# Altium footprint library Connectors-WR-PHD_Pin Header.PcbLib: 232 footprints (part 9 of 15)
Each footprint in its own frame and in the unit in brackets; x right, y up, seen from the top. Pads: shape width x height; smd on the part's side, far side on the other; paste and mask are expansions set on the pad; w line width, h text height; cw(c..) or ccw(c..) is an arc to the next point about the centre after c.
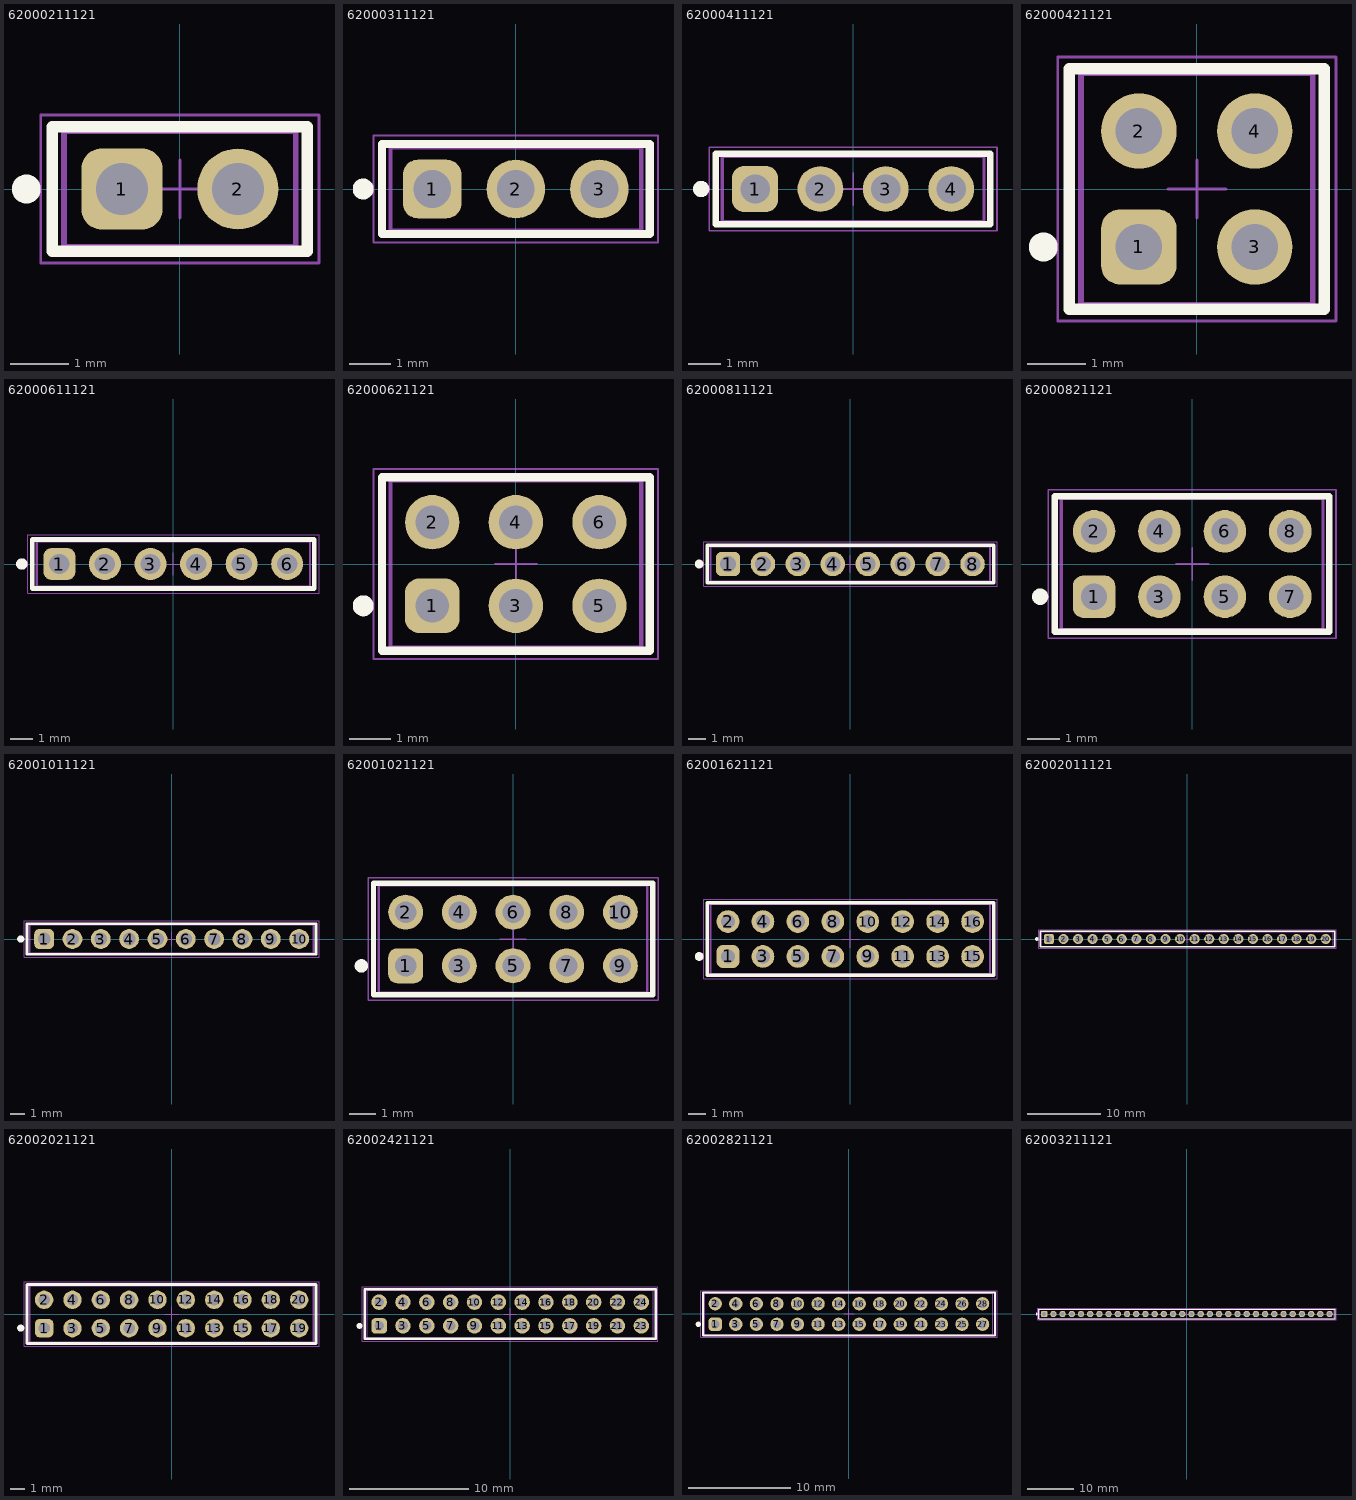
[diagram p8: the footprints below, top view; thin cyan lines are the x and y axes]

## 62000211121 [mm] "Pin Header, pitch 2.00 mm, THT, Vertical, single row, 2p"
height 6.35
pads (2):
  rrect50% 1.4x1.4 hole 0.9: 1(-1,0)
  round 1.4 hole 0.9: 2(1,0)
Top Overlay:
  circle w0.25: c-2.65,0 r0.125
  lines w0.2: -2.2,-1.075 -2.2,1.075 2.2,1.075 2.2,-1.075 -2.2,-1.075
Top Designator:
  text ".Designator" at -5.998,-0.4 h1.2
Top Component Outline:
  lines w0.1: -2,-1 -2,1 2,1 2,-1 -2,-1
Top Courtyard:
  lines w0.05: -2.4,-1.275 -2.4,1.275 2.4,1.275 2.4,-1.275 -2.4,-1.275
Top Component Center:
  lines w0.05: -0.5,0 0.5,0 ; 0,-0.5 0,0.5
3D body "62000211121.stp": height 6.05, standoff -2.65, extent -2,-1 2,1

## 62000311121 [mm] "Pin Header, pitch 2.00 mm, THT, Vertical, single row, 3p"
height 6.35
pads (3):
  rrect50% 1.4x1.4 hole 0.9: 1(-2,0)
  round 1.4 hole 0.9: 2(0,0) 3(2,0)
Top Overlay:
  circle w0.25: c-3.65,0 r0.125
  lines w0.2: -3.2,-1.075 -3.2,1.075 3.2,1.075 3.2,-1.075 -3.2,-1.075
Top Designator:
  text ".Designator" at -5.998,-0.4 h1.2
Top Component Outline:
  lines w0.1: -3,-1 -3,1 3,1 3,-1 -3,-1
Top Courtyard:
  lines w0.05: -3.4,-1.275 -3.4,1.275 3.4,1.275 3.4,-1.275 -3.4,-1.275
Top Component Center:
  lines w0.05: -0.5,0 0.5,0 ; 0,-0.5 0,0.5
3D body "62000311121.stp": height 6.05, standoff -2.65, extent -3,-1 3,1

## 62000411121 [mm] "Pin Header, pitch 2.00 mm, THT, Vertical, single row, 4p"
height 6.35
pads (4):
  rrect50% 1.4x1.4 hole 0.9: 1(-3,0)
  round 1.4 hole 0.9: 2(-1,0) 3(1,0) 4(3,0)
Top Overlay:
  circle w0.25: c-4.65,0 r0.125
  lines w0.2: -4.2,-1.075 -4.2,1.075 4.2,1.075 4.2,-1.075 -4.2,-1.075
Top Designator:
  text ".Designator" at -5.998,-0.4 h1.2
Top Component Outline:
  lines w0.1: -4,-1 -4,1 4,1 4,-1 -4,-1
Top Courtyard:
  lines w0.05: -4.4,-1.275 -4.4,1.275 4.4,1.275 4.4,-1.275 -4.4,-1.275
Top Component Center:
  lines w0.05: -0.5,0 0.5,0 ; 0,-0.5 0,0.5
3D body "62000411121.stp": height 6.05, standoff -2.65, extent -4,-1 4,1

## 62000421121 [mm] "2.00 mm THT Dual Pin Header, 4p"
height 6
pads (4):
  rrect50% 1.3x1.3 hole 0.8: 1(-1,-1)
  round 1.3 hole 0.8: 2(-1,1) 3(1,-1) 4(1,1)
Top Overlay:
  circle w0.25: c-2.65,-1 r0.125
  lines w0.2: -2.2,-2.075 2.2,-2.075 2.2,2.075 -2.2,2.075 -2.2,-2.075
Top Designator:
  text ".Designator" at -7.498,-0.5 h1.5
Top Component Outline:
  lines w0.1: -2,-2 2,-2 2,2 -2,2 -2,-2
Top Courtyard:
  lines w0.05: -2.4,-2.275 -2.4,2.275 2.4,2.275 2.4,-2.275 -2.4,-2.275
Top Component Center:
  lines w0.05: -0.5,0 0.5,0 ; 0,-0.5 0,0.5
3D body "62000421121.stp": height 6.05, standoff -2.65, extent -2,-2 2,2

## 62000611121 [mm] "Pin Header, pitch 2.00 mm, THT, Vertical, single row, 6p"
height 6.35
pads (6):
  rrect50% 1.4x1.4 hole 0.9: 1(-5,0)
  round 1.4 hole 0.9: 2(-3,0) 3(-1,0) 4(1,0) 5(3,0) 6(5,0)
Top Overlay:
  circle w0.25: c-6.65,0 r0.125
  lines w0.2: -6.2,-1.075 -6.2,1.075 6.2,1.075 6.2,-1.075 -6.2,-1.075
Top Designator:
  text ".Designator" at -5.998,-0.4 h1.2
Top Component Outline:
  lines w0.1: -6,-1 -6,1 6,1 6,-1 -6,-1
Top Courtyard:
  lines w0.05: -6.4,-1.275 -6.4,1.275 6.4,1.275 6.4,-1.275 -6.4,-1.275
Top Component Center:
  lines w0.05: -0.5,0 0.5,0 ; 0,-0.5 0,0.5
3D body "62000611121.stp": height 6.05, standoff -2.65, extent -6,-1 6,1

## 62000621121 [mm] "2.00 mm THT Dual Pin Header, 6p"
height 6
pads (6):
  rrect50% 1.3x1.3 hole 0.8: 1(-2,-1)
  round 1.3 hole 0.8: 2(-2,1) 3(0,-1) 4(0,1) 5(2,-1) 6(2,1)
Top Overlay:
  circle w0.25: c-3.65,-1 r0.125
  lines w0.2: -3.2,-2.075 -3.2,2.075 3.2,2.075 3.2,-2.075 -3.2,-2.075
Top Designator:
  text ".Designator" at -7.498,-0.5 h1.5
Top Component Outline:
  lines w0.1: -3,-2 -3,2 3,2 3,-2 -3,-2
Top Courtyard:
  lines w0.05: -3.4,-2.275 3.4,-2.275 3.4,2.275 -3.4,2.275 -3.4,-2.275
Top Component Center:
  lines w0.05: -0.5,0 0.5,0 ; 0,-0.5 0,0.5
3D body "62000621121.stp": height 6.05, standoff -2.65, extent -3,-2 3,2

## 62000811121 [mm] "Pin Header, pitch 2.00 mm, THT, Vertical, single row, 8p"
height 6.35
pads (8):
  rrect50% 1.4x1.4 hole 0.9: 1(-7,0)
  round 1.4 hole 0.9: 2(-5,0) 3(-3,0) 4(-1,0) 5(1,0) 6(3,0) 7(5,0) 8(7,0)
Top Overlay:
  circle w0.25: c-8.65,0 r0.125
  lines w0.2: -8.2,-1.075 -8.2,1.075 8.2,1.075 8.2,-1.075 -8.2,-1.075
Top Designator:
  text ".Designator" at -5.998,-0.4 h1.2
Top Component Outline:
  lines w0.1: -8,-1 -8,1 8,1 8,-1 -8,-1
Top Courtyard:
  lines w0.05: -8.4,-1.275 -8.4,1.275 8.4,1.275 8.4,-1.275 -8.4,-1.275
Top Component Center:
  lines w0.05: -0.5,0 0.5,0 ; 0,-0.5 0,0.5
3D body "62000811121.stp": height 6.05, standoff -2.65, extent -8,-1 8,1

## 62000821121 [mm] "2.00 mm THT Dual Pin Header, 8p"
height 6
pads (8):
  rrect50% 1.3x1.3 hole 0.8: 1(-3,-1)
  round 1.3 hole 0.8: 2(-3,1) 3(-1,-1) 4(-1,1) 5(1,-1) 6(1,1) 7(3,-1) 8(3,1)
Top Overlay:
  circle w0.25: c-4.65,-1 r0.125
  lines w0.2: -4.2,-2.075 -4.2,2.075 4.2,2.075 4.2,-2.075 -4.2,-2.075
Top Designator:
  text ".Designator" at -7.498,-0.5 h1.5
Top Component Outline:
  lines w0.1: -4,-2 -4,2 4,2 4,-2 -4,-2
Top Courtyard:
  lines w0.05: -4.4,-2.275 4.4,-2.275 4.4,2.275 -4.4,2.275 -4.4,-2.275
Top Component Center:
  lines w0.05: -0.5,0 0.5,0 ; 0,-0.5 0,0.5
3D body "62000821121.stp": height 6.05, standoff -2.65, extent -4,-2 4,2

## 62001011121 [mm] "Pin Header, pitch 2.00 mm, THT, Vertical, single row, 10p"
height 6.35
pads (10):
  rrect50% 1.4x1.4 hole 0.9: 1(-9,0)
  round 1.4 hole 0.9: 2(-7,0) 3(-5,0) 4(-3,0) 5(-1,0) 6(1,0) 7(3,0) 8(5,0) 9(7,0) 10(9,0)
Top Overlay:
  circle w0.25: c-10.65,0 r0.125
  lines w0.2: -10.2,-1.075 10.2,-1.075 10.2,1.075 -10.2,1.075 -10.2,-1.075
Top Designator:
  text ".Designator" at -5.998,-0.4 h1.2
Top Component Outline:
  lines w0.1: -10,-1 10,-1 10,1 -10,1 -10,-1
Top Courtyard:
  lines w0.05: -10.4,-1.275 10.4,-1.275 10.4,1.275 -10.4,1.275 -10.4,-1.275
Top Component Center:
  lines w0.05: -0.5,0 0.5,0 ; 0,-0.5 0,0.5
3D body "62001011121.stp": height 6.05, standoff -2.65, extent -10,-1 10,1

## 62001021121 [mm] "2.00 mm THT Dual Pin Header, 10p"
height 6
pads (10):
  rrect50% 1.3x1.3 hole 0.8: 1(-4,-1)
  round 1.3 hole 0.8: 2(-4,1) 3(-2,-1) 4(-2,1) 5(0,-1) 6(0,1) 7(2,-1) 8(2,1) 9(4,-1) 10(4,1)
Top Overlay:
  circle w0.25: c-5.65,-1 r0.125
  lines w0.2: -5.2,-2.075 5.2,-2.075 5.2,2.075 -5.2,2.075 -5.2,-2.075
Top Designator:
  text ".Designator" at -7.498,-0.5 h1.5
Top Component Outline:
  lines w0.1: -5,-2 5,-2 5,2 -5,2 -5,-2
Top Courtyard:
  lines w0.05: -5.4,-2.275 -5.4,2.275 5.4,2.275 5.4,-2.275 -5.4,-2.275
Top Component Center:
  lines w0.05: -0.5,0 0.5,0 ; 0,-0.5 0,0.5
3D body "62001021121.stp": height 6.05, standoff -2.65, extent -5,-2 5,2

## 62001621121 [mm] "2.00 mm THT Dual Pin Header, 16p"
height 6
pads (16):
  rrect50% 1.3x1.3 hole 0.8: 1(-7,-1)
  round 1.3 hole 0.8: 2(-7,1) 3(-5,-1) 4(-5,1) 5(-3,-1) 6(-3,1) 7(-1,-1) 8(-1,1) 9(1,-1) 10(1,1) 11(3,-1) 12(3,1) 13(5,-1) 14(5,1) 15(7,-1) 16(7,1)
Top Overlay:
  circle w0.25: c-8.65,-1 r0.125
  lines w0.2: -8.2,-2.075 -8.2,2.075 8.2,2.075 8.2,-2.075 -8.2,-2.075
Top Designator:
  text ".Designator" at -7.498,-0.5 h1.5
Top Component Outline:
  lines w0.1: -8,-2 -8,2 8,2 8,-2 -8,-2
Top Courtyard:
  lines w0.05: -8.4,-2.275 8.4,-2.275 8.4,2.275 -8.4,2.275 -8.4,-2.275
Top Component Center:
  lines w0.05: -0.5,0 0.5,0 ; 0,-0.5 0,0.5
3D body "62001621121.stp": height 6.05, standoff -2.65, extent -8,-2 8,2

## 62002011121 [mm] "Pin Header, pitch 2.00 mm, THT, Vertical, single row, 20p"
height 6.35
pads (20):
  rrect50% 1.4x1.4 hole 0.9: 1(-19,0)
  round 1.4 hole 0.9: 2(-17,0) 3(-15,0) 4(-13,0) 5(-11,0) 6(-9,0) 7(-7,0) 8(-5,0) 9(-3,0) 10(-1,0) 11(1,0) 12(3,0) 13(5,0) 14(7,0) 15(9,0) 16(11,0) 17(13,0) 18(15,0) 19(17,0) 20(19,0)
Top Overlay:
  circle w0.25: c-20.65,0 r0.125
  lines w0.2: -20.2,-1.075 -20.2,1.075 20.2,1.075 20.2,-1.075 -20.2,-1.075
Top Designator:
  text ".Designator" at -5.998,-0.4 h1.2
Top Component Outline:
  lines w0.1: -20,-1 -20,1 20,1 20,-1 -20,-1
Top Courtyard:
  lines w0.05: -20.4,-1.275 -20.4,1.275 20.4,1.275 20.4,-1.275 -20.4,-1.275
Top Component Center:
  lines w0.05: -0.5,0 0.5,0 ; 0,-0.5 0,0.5
3D body "62002011121.stp": height 6.05, standoff -2.65, extent -20,-1 20,1

## 62002021121 [mm] "2.00 mm THT Dual Pin Header, 20p"
height 6
pads (20):
  rrect50% 1.3x1.3 hole 0.8: 1(-9,-1)
  round 1.3 hole 0.8: 2(-9,1) 3(-7,-1) 4(-7,1) 5(-5,-1) 6(-5,1) 7(-3,-1) 8(-3,1) 9(-1,-1) 10(-1,1) 11(1,-1) 12(1,1) 13(3,-1) 14(3,1) 15(5,-1) 16(5,1) 17(7,-1) 18(7,1) 19(9,-1) 20(9,1)
Top Overlay:
  circle w0.25: c-10.65,-1 r0.125
  lines w0.2: -10.2,-2.075 -10.2,2.075 10.2,2.075 10.2,-2.075 -10.2,-2.075
Top Designator:
  text ".Designator" at -7.498,-0.5 h1.5
Top Component Outline:
  lines w0.1: -10,-2 -10,2 10,2 10,-2 -10,-2
Top Courtyard:
  lines w0.05: -10.4,-2.275 10.4,-2.275 10.4,2.275 -10.4,2.275 -10.4,-2.275
Top Component Center:
  lines w0.05: -0.5,0 0.5,0 ; 0,-0.5 0,0.5
3D body "62002021121.stp": height 6.05, standoff -2.65, extent -10,-2 10,2

## 62002421121 [mm] "2.00 mm THT Dual Pin Header, 24p"
height 6
pads (24):
  rrect50% 1.3x1.3 hole 0.8: 1(-11,-1)
  round 1.3 hole 0.8: 2(-11,1) 3(-9,-1) 4(-9,1) 5(-7,-1) 6(-7,1) 7(-5,-1) 8(-5,1) 9(-3,-1) 10(-3,1) 11(-1,-1) 12(-1,1) 13(1,-1) 14(1,1) 15(3,-1) 16(3,1) 17(5,-1) 18(5,1) 19(7,-1) 20(7,1) 21(9,-1) 22(9,1) 23(11,-1) 24(11,1)
Top Overlay:
  circle w0.25: c-12.65,-1 r0.125
  lines w0.2: -12.2,-2.075 12.2,-2.075 12.2,2.075 -12.2,2.075 -12.2,-2.075
Top Designator:
  text ".Designator" at -7.498,-0.5 h1.5
Top Component Outline:
  lines w0.1: -12,-2 12,-2 12,2 -12,2 -12,-2
Top Courtyard:
  lines w0.05: -12.4,-2.275 -12.4,2.275 12.4,2.275 12.4,-2.275 -12.4,-2.275
Top Component Center:
  lines w0.05: -0.5,0 0.5,0 ; 0,-0.5 0,0.5
3D body "62002421121.stp": height 6.05, standoff -2.65, extent -12,-2 12,2

## 62002821121 [mm] "2.00 mm THT Dual Pin Header, 28p"
height 6
pads (28):
  rrect50% 1.3x1.3 hole 0.8: 1(-13,-1)
  round 1.3 hole 0.8: 2(-13,1) 3(-11,-1) 4(-11,1) 5(-9,-1) 6(-9,1) 7(-7,-1) 8(-7,1) 9(-5,-1) 10(-5,1) 11(-3,-1) 12(-3,1) 13(-1,-1) 14(-1,1) 15(1,-1) 16(1,1) 17(3,-1) 18(3,1) 19(5,-1) 20(5,1) 21(7,-1) 22(7,1) 23(9,-1) 24(9,1) 25(11,-1) 26(11,1) 27(13,-1) 28(13,1)
Top Overlay:
  circle w0.25: c-14.65,-1 r0.125
  lines w0.2: -14.2,-2.075 14.2,-2.075 14.2,2.075 -14.2,2.075 -14.2,-2.075
Top Designator:
  text ".Designator" at -7.498,-0.5 h1.5
Top Component Outline:
  lines w0.1: -14,-2 14,-2 14,2 -14,2 -14,-2
Top Courtyard:
  lines w0.05: -14.4,-2.275 -14.4,2.275 14.4,2.275 14.4,-2.275 -14.4,-2.275
Top Component Center:
  lines w0.05: -0.5,0 0.5,0 ; 0,-0.5 0,0.5
3D body "62002821121.stp": height 6.05, standoff -2.65, extent -14,-2 14,2

## 62003211121 [mm] "Pin Header, pitch 2.00 mm, THT, Vertical, single row, 32p"
height 6.35
pads (32):
  rrect50% 1.4x1.4 hole 0.9: 1(-31,0)
  round 1.4 hole 0.9: 2(-29,0) 3(-27,0) 4(-25,0) 5(-23,0) 6(-21,0) 7(-19,0) 8(-17,0) 9(-15,0) 10(-13,0) 11(-11,0) 12(-9,0) 13(-7,0) 14(-5,0) 15(-3,0) 16(-1,0) 17(1,0) 18(3,0) 19(5,0) 20(7,0) 21(9,0) 22(11,0) 23(13,0) 24(15,0) 25(17,0) 26(19,0) 27(21,0) 28(23,0) 29(25,0) 30(27,0) 31(29,0) 32(31,0)
Top Overlay:
  circle w0.25: c-32.65,0 r0.125
  lines w0.2: -32.2,-1.075 32.2,-1.075 32.2,1.075 -32.2,1.075 -32.2,-1.075
Top Designator:
  text ".Designator" at -5.998,-0.4 h1.2
Top Component Outline:
  lines w0.1: -32,-1 32,-1 32,1 -32,1 -32,-1
Top Courtyard:
  lines w0.05: -32.4,-1.275 32.4,-1.275 32.4,1.275 -32.4,1.275 -32.4,-1.275
Top Component Center:
  lines w0.05: -0.5,0 0.5,0 ; 0,-0.5 0,0.5
3D body "62003211121.stp": height 6.05, standoff -2.65, extent -32,-1 32,1